# EAGLE library part GY-BMP280-3.3 (library GY-BMP280-3.3)
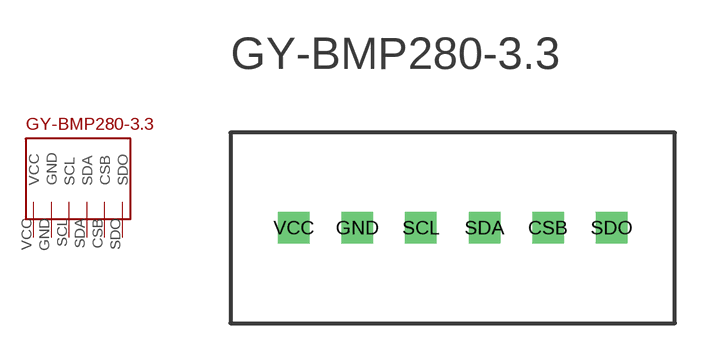
[diagram p0: symbol with the pads of GY-BMP280-3.3; footprint GY-BMP280-3.3]

Designator prefix -

## GY-BMP280-3.3  [GY-BMP280-3.3]
CSB  CSB
GND  GND
SCL  SCL
SDA  SDA
SDO  SDO
VCC  VCC

## Footprint GY-BMP280-3.3 (pad centres in mm)
drill 0.75 square: CSB 12.7,3.81; GND 5.08,3.81; SCL 7.62,3.81; SDA 10.16,3.81; SDO 15.24,3.81; VCC 2.54,3.81